# Altium integrated library TI Logic Latch.IntLib: 771 symbols (part 18 of 18)
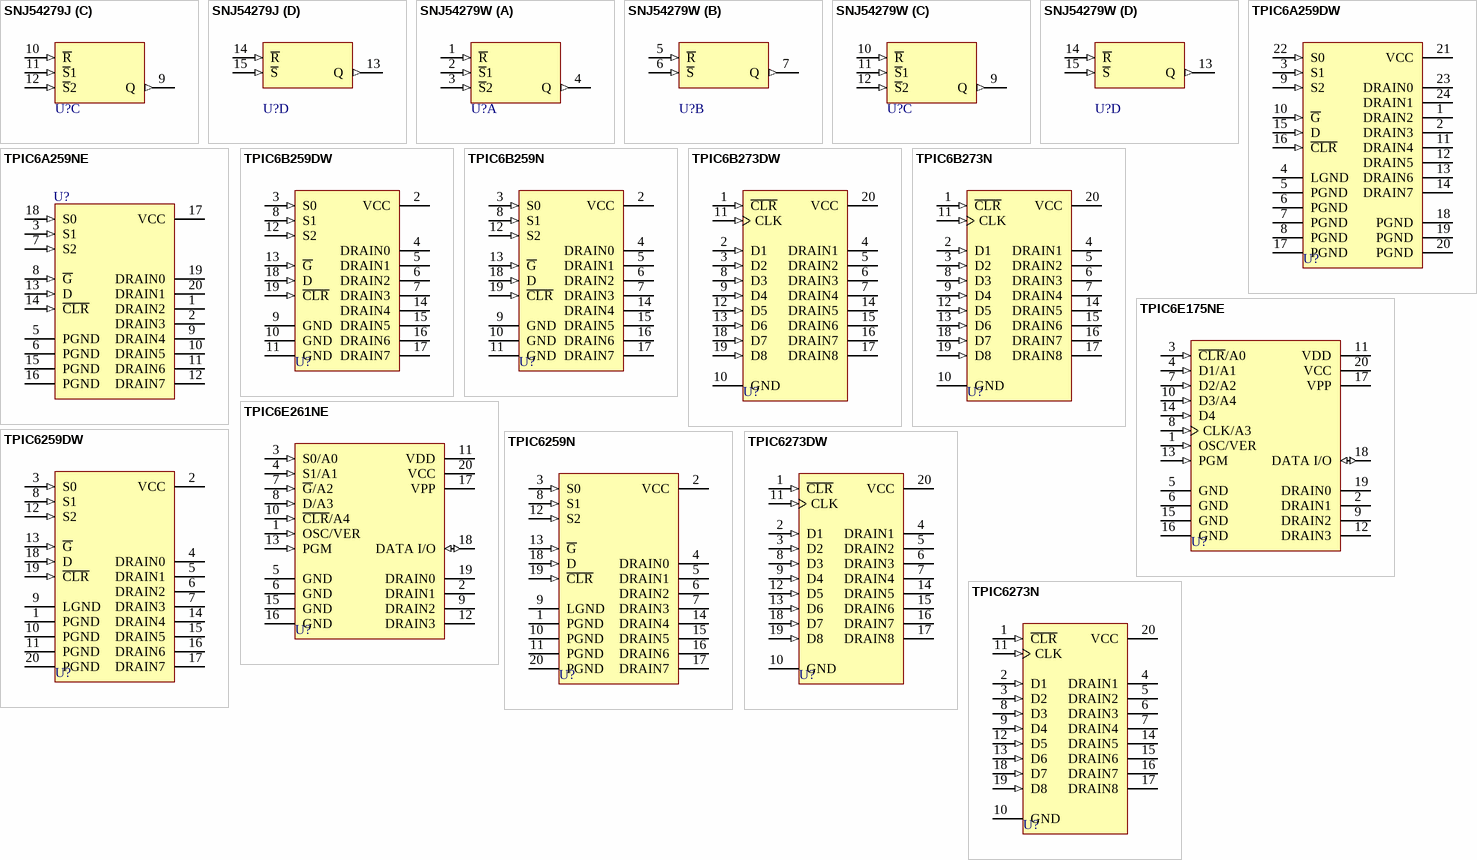
[diagram p43: symbols SNJ54279J to TPIC6273N]

## TPIC6273N
designator U?
Power Logic Octal D-Type Latch; Published: 8-Jun-2000; LatestRevisionDate: 04-Mar-2005; LatestRevisionNote: Stylized 3D Model Added.; DatasheetVersion: Oct-1995; PackageVersion: Oct-1995; PackageReference: N020C; Publisher: Altium Limited; PackageDescription: DIP; 20 Leads; Row Spacing 7.62 mm; Pitch 2.54 mm; ComponentLink1Description: Manufacturer Link; ComponentLink1URL: http://www.ti.com/; ComponentLink2Description: Datasheet; ComponentLink2URL: http://www-s.ti.com/sc/ds/tpic6273.pdf
footprint N020C (DIP; 20 Leads; Row Spacing 7.62 mm; Pitch 2.54 mm)
3D model J020 (DIP; 20 Leads; Row Spacing 7.62 mm; Pitch 2.54 mm)
pins: 1 ~{CLR} (in), 2 D1 (in), 3 D2 (in), 4 DRAIN1 (oc), 5 DRAIN2 (oc), 6 DRAIN3 (oc), 7 DRAIN4 (oc), 8 D3 (in), 9 D4 (in), 10 GND (power), 11 CLK (in), 12 D5 (in), 13 D6 (in), 14 DRAIN5 (oc), 15 DRAIN6 (oc), 16 DRAIN7 (oc), 17 DRAIN8 (oc), 18 D7 (in), 19 D8 (in), 20 VCC (power)